# EAGLE library part DM3AT-SF-PEJM5 (library alvie)
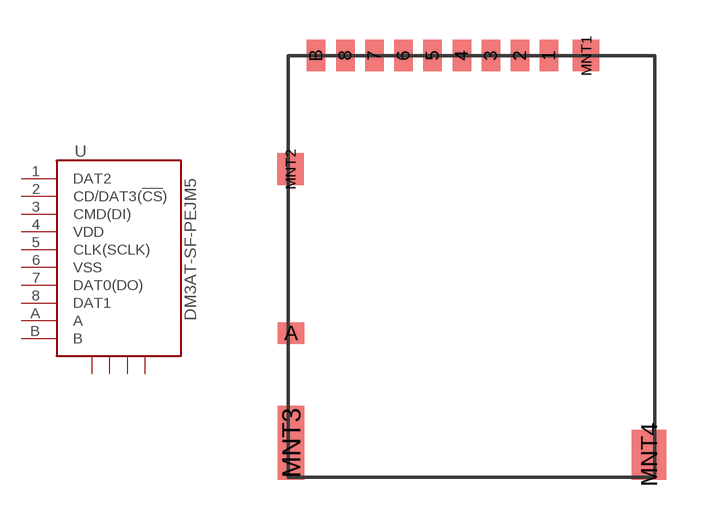
[diagram p67: symbol with the pads of DM3-AT; footprint DM3-AT]

Designator prefix -

## DM3AT-SF-PEJM5  [DM3-AT]
1  DAT2
2  CD/DAT3(!CS!)
3  CMD(DI)
4  VDD  pwr
5  CLK(SCLK)  in
6  VSS  pwr
7  DAT0(DO)
8  DAT1
A  A  pas
B  B  pas
MNT1  S1  pas
MNT2  S2  pas
MNT3  S3  pas
MNT4  S4  pas

## Footprint DM3-AT (pad centres in mm)
smd 0.7 x 1.2: 1 2.925,7.975; 2 1.825,7.975; 3 0.725,7.975; 4 -0.375,7.975; 5 -1.475,7.975; 6 -2.575,7.975; 7 -3.675,7.975; 8 -4.775,7.975; B -5.875,7.975
smd 1 x 0.8: A -6.825,-2.525
smd 1 x 1.2: MNT1 4.325,7.975; MNT2 -6.85,3.675
smd 1 x 2.8: MNT3 -6.825,-6.675
smd 1.3 x 1.9: MNT4 6.7,-7.125